# Altium integrated library TI Video Amplifier.IntLib: 11 symbols
Pins are listed as number, name and electrical type; pins without a type are passive.

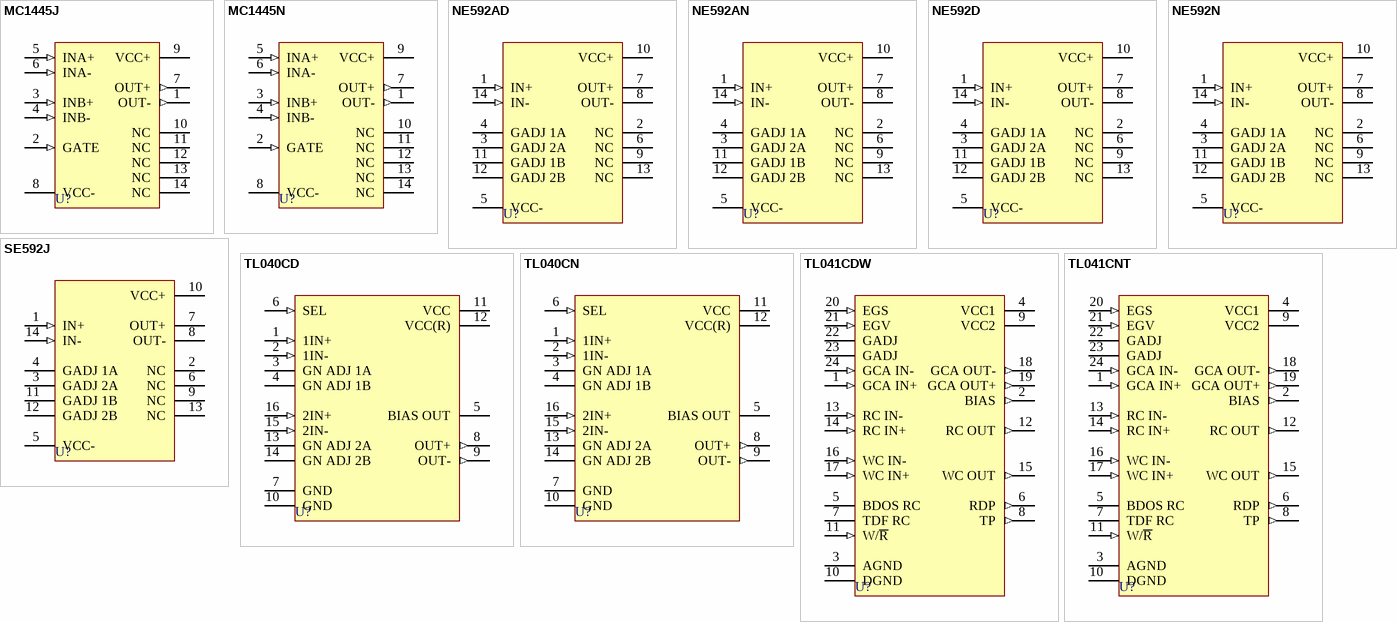
[diagram p0: symbols MC1445J to TL041CNT]

## MC1445J
designator U?
Gate-Controlled 2-Channel-Input Video Amplifier; Published: 15-Apr-2002; LatestRevisionDate: 04-Mar-2005; LatestRevisionNote: Stylized 3D Model Added.; DatasheetVersion: Apr-1988; PackageVersion: Jun-1999; PackageReference: J014; Publisher: Altium Limited; PackageDescription: DIP; 14 Leads; Row Spacing 7.62 mm; Pitch 2.54 mm; ComponentLink1Description: Manufacturer Link; ComponentLink1URL: http://www.ti.com/
footprint J014 (DIP; 14 Leads; Row Spacing 7.62 mm; Pitch 2.54 mm)
3D model J014 (DIP; 14 Leads; Row Spacing 7.62 mm; Pitch 2.54 mm)
pins: 1 OUT- (out), 2 GATE (in), 3 INB+ (in), 4 INB- (in), 5 INA+ (in), 6 INA- (in), 7 OUT+ (out), 8 VCC- (power), 9 VCC+ (power), 10 NC, 11 NC, 12 NC, 13 NC, 14 NC

## MC1445N
designator U?
Gate-Controlled 2-Channel-Input Video Amplifier; Published: 15-Apr-2002; LatestRevisionDate: 04-Mar-2005; LatestRevisionNote: Stylized 3D Model Added.; DatasheetVersion: Apr-1988; PackageVersion: Oct-1995; PackageReference: N014; Publisher: Altium Limited; PackageDescription: DIP; 14 Leads; Row Spacing 7.62 mm; Pitch 2.54 mm; ComponentLink1Description: Manufacturer Link; ComponentLink1URL: http://www.ti.com/
footprint N014 (DIP; 14 Leads; Row Spacing 7.62 mm; Pitch 2.54 mm)
3D model N014 (DIP; 14 Leads; Row Spacing 7.62 mm; Pitch 2.54 mm)
pins: 1 OUT- (out), 2 GATE (in), 3 INB+ (in), 4 INB- (in), 5 INA+ (in), 6 INA- (in), 7 OUT+ (out), 8 VCC- (power), 9 VCC+ (power), 10 NC, 11 NC, 12 NC, 13 NC, 14 NC

## NE592AD
designator U?
Differential Video Amplifier; Published: 15-Apr-2002; LatestRevisionDate: 13-Apr-2006; LatestRevisionNote: IPC-7351 Footprint Added.; DatasheetVersion: Feb-1988; PackageVersion: Jan-1998; PackageReference: D014; Publisher: Altium Limited; PackageDescription: 14-Pin Small Outline Integrated Circuit 1.27 mm Pitch; Code_IPC: SOIC127P600-14; ComponentLink1Description: Manufacturer Link; ComponentLink1URL: http://www.ti.com/
footprint D014_N (SOIC, 14-Leads, Body 8.7x3.9mm, Pitch 1.27mm, IPC Medium Density)
footprint D014_L (SOIC, 14-Leads, Body 8.7x3.9mm, Pitch 1.27mm, IPC High Density)
footprint D014_M (SOIC, 14-Leads, Body 8.7x3.9mm, Pitch 1.27mm, IPC Low Density)
3D model D014 (14-Pin Small Outline Integrated Circuit 1.27 mm Pitch)
pins: 1 IN+ (in), 2 NC, 3 GADJ 2A, 4 GADJ 1A, 5 VCC- (power), 6 NC, 7 OUT+ (oe), 8 OUT- (oe), 9 NC, 10 VCC+ (power), 11 GADJ 1B, 12 GADJ 2B, 13 NC, 14 IN- (in)

## NE592AN
designator U?
Differential Video Amplifier; Published: 15-Apr-2002; LatestRevisionDate: 04-Mar-2005; LatestRevisionNote: Stylized 3D Model Added.; DatasheetVersion: Feb-1988; PackageVersion: Oct-1995; PackageReference: N014; Publisher: Altium Limited; PackageDescription: DIP; 14 Leads; Row Spacing 7.62 mm; Pitch 2.54 mm; ComponentLink1Description: Manufacturer Link; ComponentLink1URL: http://www.ti.com/
footprint N014 (DIP; 14 Leads; Row Spacing 7.62 mm; Pitch 2.54 mm)
3D model N014 (DIP; 14 Leads; Row Spacing 7.62 mm; Pitch 2.54 mm)
pins: 1 IN+ (in), 2 NC, 3 GADJ 2A, 4 GADJ 1A, 5 VCC- (power), 6 NC, 7 OUT+ (oe), 8 OUT- (oe), 9 NC, 10 VCC+ (power), 11 GADJ 1B, 12 GADJ 2B, 13 NC, 14 IN- (in)

## NE592D
designator U?
Differential Video Amplifier; Published: 15-Apr-2002; LatestRevisionDate: 13-Apr-2006; LatestRevisionNote: IPC-7351 Footprint Added.; DatasheetVersion: Feb-1988; PackageVersion: Jan-1998; PackageReference: D014; Publisher: Altium Limited; PackageDescription: 14-Pin Small Outline Integrated Circuit 1.27 mm Pitch; Code_IPC: SOIC127P600-14; ComponentLink1Description: Manufacturer Link; ComponentLink1URL: http://www.ti.com/
footprint D014_N (SOIC, 14-Leads, Body 8.7x3.9mm, Pitch 1.27mm, IPC Medium Density)
footprint D014_L (SOIC, 14-Leads, Body 8.7x3.9mm, Pitch 1.27mm, IPC High Density)
footprint D014_M (SOIC, 14-Leads, Body 8.7x3.9mm, Pitch 1.27mm, IPC Low Density)
3D model D014 (14-Pin Small Outline Integrated Circuit 1.27 mm Pitch)
pins: 1 IN+ (in), 2 NC, 3 GADJ 2A, 4 GADJ 1A, 5 VCC- (power), 6 NC, 7 OUT+ (oe), 8 OUT- (oe), 9 NC, 10 VCC+ (power), 11 GADJ 1B, 12 GADJ 2B, 13 NC, 14 IN- (in)

## NE592N
designator U?
Differential Video Amplifier; Published: 15-Apr-2002; LatestRevisionDate: 04-Mar-2005; LatestRevisionNote: Stylized 3D Model Added.; DatasheetVersion: Feb-1988; PackageVersion: Oct-1995; PackageReference: N014; Publisher: Altium Limited; PackageDescription: DIP; 14 Leads; Row Spacing 7.62 mm; Pitch 2.54 mm; ComponentLink1Description: Manufacturer Link; ComponentLink1URL: http://www.ti.com/
footprint N014 (DIP; 14 Leads; Row Spacing 7.62 mm; Pitch 2.54 mm)
3D model N014 (DIP; 14 Leads; Row Spacing 7.62 mm; Pitch 2.54 mm)
pins: 1 IN+ (in), 2 NC, 3 GADJ 2A, 4 GADJ 1A, 5 VCC- (power), 6 NC, 7 OUT+ (oe), 8 OUT- (oe), 9 NC, 10 VCC+ (power), 11 GADJ 1B, 12 GADJ 2B, 13 NC, 14 IN- (in)

## SE592J
designator U?
Differential Video Amplifier; ComponentAvailability: Obsolete; Published: 15-Apr-2002; LatestRevisionDate: 04-Mar-2005; LatestRevisionNote: Stylized 3D Model Added.; DatasheetVersion: Feb-1988; PackageVersion: Jun-1999; PackageReference: J014; Publisher: Altium Limited; PackageDescription: DIP; 14 Leads; Row Spacing 7.62 mm; Pitch 2.54 mm; ComponentLink1Description: Manufacturer Link; ComponentLink1URL: http://www.ti.com/; ComponentLink2Description: Discontinuation Notice; ComponentLink2URL: http://focus.ti.com/pdfs/mltry/obsolete.pdf
footprint J014 (DIP; 14 Leads; Row Spacing 7.62 mm; Pitch 2.54 mm)
3D model J014 (DIP; 14 Leads; Row Spacing 7.62 mm; Pitch 2.54 mm)
pins: 1 IN+ (in), 2 NC, 3 GADJ 2A, 4 GADJ 1A, 5 VCC- (power), 6 NC, 7 OUT+ (oe), 8 OUT- (oe), 9 NC, 10 VCC+ (power), 11 GADJ 1B, 12 GADJ 2B, 13 NC, 14 IN- (in)

## TL040CD
designator U?
2-Channel Multiplexed Video Amplifier; Published: 15-Apr-2002; LatestRevisionDate: 13-Apr-2006; LatestRevisionNote: IPC-7351 Footprint Added.; DatasheetVersion: Dec-1988; PackageVersion: Jan-1998; PackageReference: D016; Publisher: Altium Limited; PackageDescription: 16-Pin Small Outline Integrated Circuit 1.27 mm Pitch; Code_IPC: SOIC127P600-16; ComponentLink1Description: Manufacturer Link; ComponentLink1URL: http://www.ti.com/
footprint D016_N (SOIC, 16-Leads, Body 9.9x3.9mm, Pitch 1.27mm, IPC Medium Density)
footprint D016_L (SOIC, 16-Leads, Body 9.9x3.9mm, Pitch 1.27mm, IPC High Density)
footprint D016_M (SOIC, 16-Leads, Body 9.9x3.9mm, Pitch 1.27mm, IPC Low Density)
3D model D016 (16-Pin Small Outline Integrated Circuit 1.27 mm Pitch)
pins: 1 1IN+ (in), 2 1IN- (in), 3 GN ADJ 1A, 4 GN ADJ 1B, 5 BIAS OUT (power), 6 SEL (in), 7 GND (power), 8 OUT+ (out), 9 OUT- (out), 10 GND (power), 11 VCC (power), 12 VCC(R) (power), 13 GN ADJ 2A, 14 GN ADJ 2B, 15 2IN- (in), 16 2IN+ (in)

## TL040CN
designator U?
2-Channel Multiplexed Video Amplifier; Published: 15-Apr-2002; LatestRevisionDate: 04-Mar-2005; LatestRevisionNote: Stylized 3D Model Added.; DatasheetVersion: Dec-1988; PackageVersion: Jun-1999; PackageReference: J016; Publisher: Altium Limited; PackageDescription: DIP; 16 Leads; Row Spacing 7.62 mm; Pitch 2.54 mm; ComponentLink1Description: Manufacturer Link; ComponentLink1URL: http://www.ti.com/
footprint J016 (DIP; 16 Leads; Row Spacing 7.62 mm; Pitch 2.54 mm)
3D model J016 (DIP; 16 Leads; Row Spacing 7.62 mm; Pitch 2.54 mm)
pins: 1 1IN+ (in), 2 1IN- (in), 3 GN ADJ 1A, 4 GN ADJ 1B, 5 BIAS OUT (power), 6 SEL (in), 7 GND (power), 8 OUT+ (out), 9 OUT- (out), 10 GND (power), 11 VCC (power), 12 VCC(R) (power), 13 GN ADJ 2A, 14 GN ADJ 2B, 15 2IN- (in), 16 2IN+ (in)

## TL041CDW
designator U?
Tape Read Signal Conditioner; Published: 15-Apr-2002; LatestRevisionDate: 13-Apr-2006; LatestRevisionNote: IPC-7351 Footprint Added.; DatasheetVersion: Aug-1987; PackageVersion: Mar-2000; PackageReference: DW024; Publisher: Altium Limited; PackageDescription: 24-Pin Plastic Small Outline Integrated Circuit 1.27 mm Pitch; Code_JEDEC: MS-013; ComponentLink1Description: Manufacturer Link; ComponentLink1URL: http://www.ti.com/
footprint DW024_N (SOIC, 24-Leads, Body 15.4x7.5mm, Pitch 1.27mm, IPC Medium Density)
footprint DW024_L (SOIC, 24-Leads, Body 15.4x7.5mm, Pitch 1.27mm, IPC High Density)
footprint DW024_M (SOIC, 24-Leads, Body 15.4x7.5mm, Pitch 1.27mm, IPC Low Density)
3D model DW024 (24-Pin Plastic Small Outline Integrated Circuit 1.27 mm Pitch)
pins: 1 GCA IN+ (in), 2 BIAS (out), 3 AGND (power), 4 VCC1 (power), 5 BDOS RC, 6 RDP (out), 7 TDF RC, 8 TP (out), 9 VCC2 (power), 10 DGND (power), 11 W/~{R} (in), 12 RC OUT (out), 13 RC IN- (in), 14 RC IN+ (in), 15 WC OUT (out), 16 WC IN- (in), 17 WC IN+ (in), 18 GCA OUT- (out), 19 GCA OUT+ (out), 20 EGS (in), 21 EGV (in), 22 GADJ, 23 GADJ, 24 GCA IN- (in)

## TL041CNT
designator U?
Tape Read Signal Conditioner; Published: 15-Apr-2002; LatestRevisionDate: 04-Mar-2005; LatestRevisionNote: Stylized 3D Model Added.; DatasheetVersion: Aug-1987; PackageVersion: Oct-1994; PackageReference: NT024; Publisher: Altium Limited; PackageDescription: DIP; 24 Leads; Row Spacing 7.62 mm; Pitch 2.54 mm; Code_JEDEC: MS-001-AF; ComponentLink1Description: Manufacturer Link; ComponentLink1URL: http://www.ti.com/
footprint NT024 (DIP; 24 Leads; Row Spacing 7.62 mm; Pitch 2.54 mm)
3D model NT024 (DIP; 24 Leads; Row Spacing 7.62 mm; Pitch 2.54 mm)
pins: 1 GCA IN+ (in), 2 BIAS (out), 3 AGND (power), 4 VCC1 (power), 5 BDOS RC, 6 RDP (out), 7 TDF RC, 8 TP (out), 9 VCC2 (power), 10 DGND (power), 11 W/~{R} (in), 12 RC OUT (out), 13 RC IN- (in), 14 RC IN+ (in), 15 WC OUT (out), 16 WC IN- (in), 17 WC IN+ (in), 18 GCA OUT- (out), 19 GCA OUT+ (out), 20 EGS (in), 21 EGV (in), 22 GADJ, 23 GADJ, 24 GCA IN- (in)